# Altium schematic symbol library Capacitor - Tantalum.SchLib: 113 symbols (part 1 of 2)
Pins are listed as number, name and electrical type; pins without a type are passive.

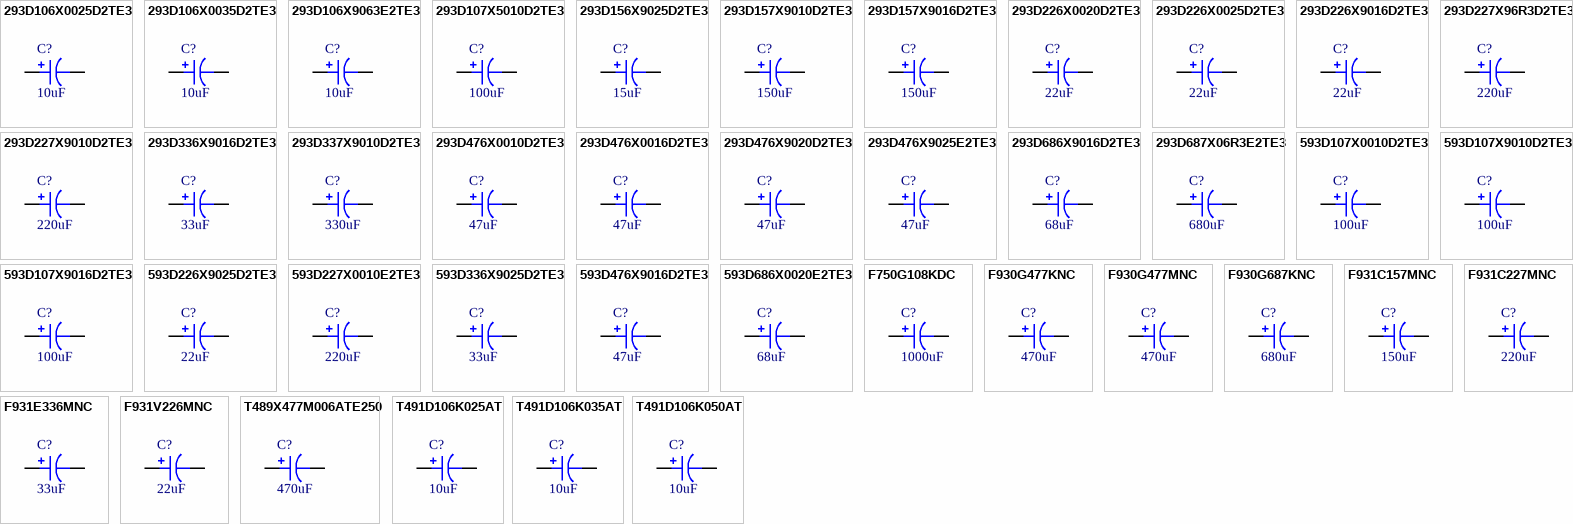
[diagram p0: symbols 293D106X0025D2TE3 to T491D106K050AT]

## 293D106X0025D2TE3
designator C?, comment 10uF
CAP TANT 10UF 25V 20% 2917; Part Number: 293D106X0025D2TE3; Manufacturer: Vishay Sprague; TemperatureRange: -55C ~ 125C; Type: General Purpose; Value: 10uF; PartId: 6863; Supplier 1: Digi-Key; Supplier Part Number 1: 718-1045-2-ND; ComponentLink1Description: Datasheet; ComponentLink1URL: http://www.vishay.com/docs/40002/293d.pdf; ComponentLink2Description: Digi-Key listing; ComponentLink2URL: http://digikey.com/product-detail/en/293D106X0025D2TE3/718-1045-2-ND/1559397; Tolerance: 20%; Voltage: 25V; Price: 0.3107; Device Package: 2917 (7343 Metric)
footprint CAP POL 2917/7343
pins: 1, 2

## 293D106X0035D2TE3
designator C?, comment 10uF
CAP TANT 10UF 35V 20% 2917; Part Number: 293D106X0035D2TE3; Manufacturer: Vishay Sprague; TemperatureRange: -55C ~ 125C; Type: General Purpose; Value: 10uF; PartId: 6869; Supplier 1: Digi-Key; Supplier Part Number 1: 718-1046-2-ND; ComponentLink1Description: Datasheet; ComponentLink1URL: http://www.vishay.com/docs/40002/293d.pdf; ComponentLink2Description: Digi-Key listing; ComponentLink2URL: http://digikey.com/product-detail/en/293D106X0035D2TE3/718-1046-2-ND/1559398; Tolerance: 20%; Voltage: 35V; Price: 0.3563; Device Package: 2917 (7343 Metric)
footprint CAP POL 2917/7343
pins: 1, 2

## 293D106X9063E2TE3
designator C?, comment 10uF
CAP TANT 10UF 63V 10% 2917; Part Number: 293D106X9063E2TE3; Manufacturer: Vishay Sprague; TemperatureRange: -55C ~ 125C; Type: General Purpose; Value: 10uF; PartId: 6972; Supplier 1: Digi-Key; Supplier Part Number 1: 718-1712-2-ND; ComponentLink1Description: Datasheet; ComponentLink1URL: http://www.vishay.com/docs/40002/293d.pdf; ComponentLink2Description: Digi-Key listing; ComponentLink2URL: http://digikey.com/product-detail/en/293D106X9063E2TE3/718-1712-2-ND/2207425; Tolerance: 10%; Voltage: 63V; Price: 5.1509; Device Package: 2917 (7343 Metric)
footprint CAP POL 2917/7343
pins: 1, 2

## 293D107X5010D2TE3
designator C?, comment 100uF
CAP TANT 100UF 10V 5% 2917; Part Number: 293D107X5010D2TE3; Manufacturer: Vishay Sprague; TemperatureRange: -55C ~ 125C; Type: General Purpose; Value: 100uF; PartId: 6924; Supplier 1: Digi-Key; Supplier Part Number 1: 718-1890-2-ND; ComponentLink1Description: Datasheet; ComponentLink1URL: http://www.vishay.com/docs/40002/293d.pdf; ComponentLink2Description: Digi-Key listing; ComponentLink2URL: http://digikey.com/product-detail/en/293D107X5010D2TE3/718-1890-2-ND/1578635; Tolerance: 5%; Voltage: 10V; Price: 0.8461; Device Package: 2917 (7343 Metric)
footprint CAP POL 2917/7343
pins: 1, 2

## 293D156X9025D2TE3
designator C?, comment 15uF
CAP TANT 15UF 25V 10% 2917; Part Number: 293D156X9025D2TE3; Manufacturer: Vishay Sprague; TemperatureRange: -55C ~ 125C; Type: General Purpose; Value: 15uF; PartId: 6874; Supplier 1: Digi-Key; Supplier Part Number 1: 718-1060-2-ND; ComponentLink1Description: Datasheet; ComponentLink1URL: http://www.vishay.com/docs/40002/293d.pdf; ComponentLink2Description: Digi-Key listing; ComponentLink2URL: http://digikey.com/product-detail/en/293D156X9025D2TE3/718-1060-2-ND/1559412; Tolerance: 10%; Voltage: 25V; Price: 0.4162; Device Package: 2917 (7343 Metric)
footprint CAP POL 2917/7343
pins: 1, 2

## 293D157X9010D2TE3
designator C?, comment 150uF
CAP TANT 150UF 10V 10% 2917; Part Number: 293D157X9010D2TE3; Manufacturer: Vishay Sprague; TemperatureRange: -55C ~ 125C; Type: General Purpose; Value: 150uF; PartId: 6913; Supplier 1: Digi-Key; Supplier Part Number 1: 718-1960-2-ND; ComponentLink1Description: Datasheet; ComponentLink1URL: http://www.vishay.com/docs/40002/293d.pdf; ComponentLink2Description: Digi-Key listing; ComponentLink2URL: http://digikey.com/product-detail/en/293D157X9010D2TE3/718-1960-2-ND/1578723; Tolerance: 10%; Voltage: 10V; Price: 0.636; Device Package: 2917 (7343 Metric)
footprint CAP POL 2917/7343
pins: 1, 2

## 293D157X9016D2TE3
designator C?, comment 150uF
CAP TANT 150UF 16V 10% 2917; Part Number: 293D157X9016D2TE3; Manufacturer: Vishay Sprague; TemperatureRange: -55C ~ 125C; Type: General Purpose; Value: 150uF; PartId: 6915; Supplier 1: Digi-Key; Supplier Part Number 1: 718-1746-2-ND; ComponentLink1Description: Datasheet; ComponentLink1URL: http://www.vishay.com/docs/40002/293d.pdf; ComponentLink2Description: Digi-Key listing; ComponentLink2URL: http://digikey.com/product-detail/en/293D157X9016D2TE3/718-1746-2-ND/2259903; Tolerance: 10%; Voltage: 16V; Price: 0.7028; Device Package: 2917 (7343 Metric)
footprint CAP POL 2917/7343
pins: 1, 2

## 293D226X0020D2TE3
designator C?, comment 22uF
CAP TANT 22UF 20V 20% 2917; Part Number: 293D226X0020D2TE3; Manufacturer: Vishay Sprague; TemperatureRange: -55C ~ 125C; Type: General Purpose; Value: 22uF; PartId: 6865; Supplier 1: Digi-Key; Supplier Part Number 1: 718-1063-2-ND; ComponentLink1Description: Datasheet; ComponentLink1URL: http://www.vishay.com/docs/40002/293d.pdf; ComponentLink2Description: Digi-Key listing; ComponentLink2URL: http://digikey.com/product-detail/en/293D226X0020D2TE3/718-1063-2-ND/1559415; Tolerance: 20%; Voltage: 20V; Price: 0.3306; Device Package: 2917 (7343 Metric)
footprint CAP POL 2917/7343
pins: 1, 2

## 293D226X0025D2TE3
designator C?, comment 22uF
CAP TANT 22UF 25V 20% 2917; Part Number: 293D226X0025D2TE3; Manufacturer: Vishay Sprague; TemperatureRange: -55C ~ 125C; Type: General Purpose; Value: 22uF; PartId: 6897; Supplier 1: Digi-Key; Supplier Part Number 1: 718-1064-2-ND; ComponentLink1Description: Datasheet; ComponentLink1URL: http://www.vishay.com/docs/40002/293d.pdf; ComponentLink2Description: Digi-Key listing; ComponentLink2URL: http://digikey.com/product-detail/en/293D226X0025D2TE3/718-1064-2-ND/1559416; Tolerance: 20%; Voltage: 25V; Price: 0.4838; Device Package: 2917 (7343 Metric)
footprint CAP POL 2917/7343
pins: 1, 2

## 293D226X9016D2TE3
designator C?, comment 22uF
CAP TANT 22UF 16V 10% 2917; Part Number: 293D226X9016D2TE3; Manufacturer: Vishay Sprague; TemperatureRange: -55C ~ 125C; Type: General Purpose; Value: 22uF; PartId: 6875; Supplier 1: Digi-Key; Supplier Part Number 1: 718-1067-2-ND; ComponentLink1Description: Datasheet; ComponentLink1URL: http://www.vishay.com/docs/40002/293d.pdf; ComponentLink2Description: Digi-Key listing; ComponentLink2URL: http://digikey.com/product-detail/en/293D226X9016D2TE3/718-1067-2-ND/1559419; Tolerance: 10%; Voltage: 16V; Price: 0.4235; Device Package: 2917 (7343 Metric)
footprint CAP POL 2917/7343
pins: 1, 2

## 293D227X96R3D2TE3
designator C?, comment 220uF
CAP TANT 220UF 6.3V 10% 2917; Part Number: 293D227X96R3D2TE3; Manufacturer: Vishay Sprague; TemperatureRange: -55C ~ 125C; Type: General Purpose; Value: 220uF; PartId: 6904; Supplier 1: Digi-Key; Supplier Part Number 1: 718-1073-2-ND; ComponentLink1Description: Datasheet; ComponentLink1URL: http://www.vishay.com/docs/40002/293d.pdf; ComponentLink2Description: Digi-Key listing; ComponentLink2URL: http://digikey.com/product-detail/en/293D227X96R3D2TE3/718-1073-2-ND/1559425; Tolerance: 10%; Voltage: 6.3V; Price: 0.5248; Device Package: 2917 (7343 Metric)
footprint CAP POL 2917/7343
pins: 1, 2

## 293D227X9010D2TE3
designator C?, comment 220uF
CAP TANT 220UF 10V 10% 2917; Part Number: 293D227X9010D2TE3; Manufacturer: Vishay Sprague; TemperatureRange: -55C ~ 125C; Type: General Purpose; Value: 220uF; PartId: 6908; Supplier 1: Digi-Key; Supplier Part Number 1: 718-1072-2-ND; ComponentLink1Description: Datasheet; ComponentLink1URL: http://www.vishay.com/docs/40002/293d.pdf; ComponentLink2Description: Digi-Key listing; ComponentLink2URL: http://digikey.com/product-detail/en/293D227X9010D2TE3/718-1072-2-ND/1559424; Tolerance: 10%; Voltage: 10V; Price: 0.5808; Device Package: 2917 (7343 Metric)
footprint CAP POL 2917/7343
pins: 1, 2

## 293D336X9016D2TE3
designator C?, comment 33uF
CAP TANT 33UF 16V 10% 2917; Part Number: 293D336X9016D2TE3; Manufacturer: Vishay Sprague; TemperatureRange: -55C ~ 125C; Type: General Purpose; Value: 33uF; PartId: 6868; Supplier 1: Digi-Key; Supplier Part Number 1: 718-1078-2-ND; ComponentLink1Description: Datasheet; ComponentLink1URL: http://www.vishay.com/docs/40002/293d.pdf; ComponentLink2Description: Digi-Key listing; ComponentLink2URL: http://digikey.com/product-detail/en/293D336X9016D2TE3/718-1078-2-ND/1559430; Tolerance: 10%; Voltage: 16V; Price: 0.355; Device Package: 2917 (7343 Metric)
footprint CAP POL 2917/7343
pins: 1, 2

## 293D337X9010D2TE3
designator C?, comment 330uF
CAP TANT 330UF 10V 10% 2917; Part Number: 293D337X9010D2TE3; Manufacturer: Vishay Sprague; TemperatureRange: -55C ~ 125C; Type: General Purpose; Value: 330uF; PartId: 6935; Supplier 1: Digi-Key; Supplier Part Number 1: 718-1747-2-ND; ComponentLink1Description: Datasheet; ComponentLink1URL: http://www.vishay.com/docs/40002/293d.pdf; ComponentLink2Description: Digi-Key listing; ComponentLink2URL: http://digikey.com/product-detail/en/293D337X9010D2TE3/718-1747-2-ND/2259904; Tolerance: 10%; Voltage: 10V; Price: 1.1363; Device Package: 2917 (7343 Metric)
footprint CAP POL 2917/7343
pins: 1, 2

## 293D476X0010D2TE3
designator C?, comment 47uF
CAP TANT 47UF 10V 20% 2917; Part Number: 293D476X0010D2TE3; Manufacturer: Vishay Sprague; TemperatureRange: -55C ~ 125C; Type: General Purpose; Value: 47uF; PartId: 6866; Supplier 1: Digi-Key; Supplier Part Number 1: 718-1936-2-ND; ComponentLink1Description: Datasheet; ComponentLink1URL: http://www.vishay.com/docs/40002/293d.pdf; ComponentLink2Description: Digi-Key listing; ComponentLink2URL: http://digikey.com/product-detail/en/293D476X0010D2TE3/718-1936-2-ND/1578939; Tolerance: 20%; Voltage: 10V; Price: 0.3306; Device Package: 2917 (7343 Metric)
footprint CAP POL 2917/7343
pins: 1, 2

## 293D476X0016D2TE3
designator C?, comment 47uF
CAP TANT 47UF 16V 20% 2917; Part Number: 293D476X0016D2TE3; Manufacturer: Vishay Sprague; TemperatureRange: -55C ~ 125C; Type: General Purpose; Value: 47uF; PartId: 6871; Supplier 1: Digi-Key; Supplier Part Number 1: 718-1086-2-ND; ComponentLink1Description: Datasheet; ComponentLink1URL: http://www.vishay.com/docs/40002/293d.pdf; ComponentLink2Description: Digi-Key listing; ComponentLink2URL: http://digikey.com/product-detail/en/293D476X0016D2TE3/718-1086-2-ND/1559438; Tolerance: 20%; Voltage: 16V; Price: 0.3625; Device Package: 2917 (7343 Metric)
footprint CAP POL 2917/7343
pins: 1, 2

## 293D476X9020D2TE3
designator C?, comment 47uF
CAP TANT 47UF 20V 10% 2917; Part Number: 293D476X9020D2TE3; Manufacturer: Vishay Sprague; TemperatureRange: -55C ~ 125C; Type: General Purpose; Value: 47uF; PartId: 6894; Supplier 1: Digi-Key; Supplier Part Number 1: 718-1091-2-ND; ComponentLink1Description: Datasheet; ComponentLink1URL: http://www.vishay.com/docs/40002/293d.pdf; ComponentLink2Description: Digi-Key listing; ComponentLink2URL: http://digikey.com/product-detail/en/293D476X9020D2TE3/718-1091-2-ND/1559443; Tolerance: 10%; Voltage: 20V; Price: 0.4768; Device Package: 2917 (7343 Metric)
footprint CAP POL 2917/7343
pins: 1, 2

## 293D476X9025E2TE3
designator C?, comment 47uF
CAP TANT 47UF 25V 10% 2917; Part Number: 293D476X9025E2TE3; Manufacturer: Vishay Sprague; TemperatureRange: -55C ~ 125C; Type: General Purpose; Value: 47uF; PartId: 6910; Supplier 1: Digi-Key; Supplier Part Number 1: 718-1752-2-ND; ComponentLink1Description: Datasheet; ComponentLink1URL: http://www.vishay.com/docs/40002/293d.pdf; ComponentLink2Description: Digi-Key listing; ComponentLink2URL: http://digikey.com/product-detail/en/293D476X9025E2TE3/718-1752-2-ND/2259909; Tolerance: 10%; Voltage: 25V; Price: 0.5979; Device Package: 2917 (7343 Metric)
footprint CAP POL 2917/7343
pins: 1, 2

## 293D686X9016D2TE3
designator C?, comment 68uF
CAP TANT 68UF 16V 10% 2917; Part Number: 293D686X9016D2TE3; Manufacturer: Vishay Sprague; TemperatureRange: -55C ~ 125C; Type: General Purpose; Value: 68uF; PartId: 6896; Supplier 1: Digi-Key; Supplier Part Number 1: 718-1096-2-ND; ComponentLink1Description: Datasheet; ComponentLink1URL: http://www.vishay.com/docs/40002/293d.pdf; ComponentLink2Description: Digi-Key listing; ComponentLink2URL: http://digikey.com/product-detail/en/293D686X9016D2TE3/718-1096-2-ND/1559448; Tolerance: 10%; Voltage: 16V; Price: 0.4829; Device Package: 2917 (7343 Metric)
footprint CAP POL 2917/7343
pins: 1, 2

## 293D687X06R3E2TE3
designator C?, comment 680uF
CAP TANT 680UF 6.3V 20% 2917; Part Number: 293D687X06R3E2TE3; Manufacturer: Vishay Sprague; TemperatureRange: -55C ~ 125C; Type: General Purpose; Value: 680uF; PartId: 6957; Supplier 1: Digi-Key; Supplier Part Number 1: 718-1754-2-ND; ComponentLink1Description: Datasheet; ComponentLink1URL: http://www.vishay.com/docs/40002/293d.pdf; ComponentLink2Description: Digi-Key listing; ComponentLink2URL: http://digikey.com/product-detail/en/293D687X06R3E2TE3/718-1754-2-ND/2259911; Tolerance: 20%; Voltage: 6.3V; Price: 1.6139; Device Package: 2917 (7343 Metric)
footprint CAP POL 2917/7343
pins: 1, 2

## 593D107X0010D2TE3
designator C?, comment 100uF
CAP TANT 100UF 10V 20% 2917; Part Number: 593D107X0010D2TE3; Manufacturer: Vishay Sprague; TemperatureRange: -55C ~ 125C; Type: General Purpose; Value: 100uF; PartId: 6890; Supplier 1: Digi-Key; Supplier Part Number 1: 718-1100-2-ND; ComponentLink1Description: Datasheet; ComponentLink1URL: http://www.vishay.com/docs/40005/593d.pdf; ComponentLink2Description: Digi-Key listing; ComponentLink2URL: http://digikey.com/product-detail/en/593D107X0010D2TE3/718-1100-2-ND/1559452; Tolerance: 20%; Voltage: 10V; Price: 0.4656; Device Package: 2917 (7343 Metric)
footprint CAP POL 2917/7343
pins: 1, 2

## 593D107X9010D2TE3
designator C?, comment 100uF
CAP TANT 100UF 10V 10% 2917; Part Number: 593D107X9010D2TE3; Manufacturer: Vishay Sprague; TemperatureRange: -55C ~ 125C; Type: General Purpose; Value: 100uF; PartId: 6889; Supplier 1: Digi-Key; Supplier Part Number 1: 718-1101-2-ND; ComponentLink1Description: Datasheet; ComponentLink1URL: http://www.vishay.com/docs/40005/593d.pdf; ComponentLink2Description: Digi-Key listing; ComponentLink2URL: http://digikey.com/product-detail/en/593D107X9010D2TE3/718-1101-2-ND/1559453; Tolerance: 10%; Voltage: 10V; Price: 0.4656; Device Package: 2917 (7343 Metric)
footprint CAP POL 2917/7343
pins: 1, 2

## 593D107X9016D2TE3
designator C?, comment 100uF
CAP TANT 100UF 16V 10% 2917; Part Number: 593D107X9016D2TE3; Manufacturer: Vishay Sprague; TemperatureRange: -55C ~ 125C; Type: General Purpose; Value: 100uF; PartId: 6911; Supplier 1: Digi-Key; Supplier Part Number 1: 718-1102-2-ND; ComponentLink1Description: Datasheet; ComponentLink1URL: http://www.vishay.com/docs/40005/593d.pdf; ComponentLink2Description: Digi-Key listing; ComponentLink2URL: http://digikey.com/product-detail/en/593D107X9016D2TE3/718-1102-2-ND/1559454; Tolerance: 10%; Voltage: 16V; Price: 0.6145; Device Package: 2917 (7343 Metric)
footprint CAP POL 2917/7343
pins: 1, 2

## 593D226X9025D2TE3
designator C?, comment 22uF
CAP TANT 22UF 25V 10% 2917; Part Number: 593D226X9025D2TE3; Manufacturer: Vishay Sprague; TemperatureRange: -55C ~ 125C; Type: General Purpose; Value: 22uF; PartId: 6893; Supplier 1: Digi-Key; Supplier Part Number 1: 718-1104-2-ND; ComponentLink1Description: Datasheet; ComponentLink1URL: http://www.vishay.com/docs/40005/593d.pdf; ComponentLink2Description: Digi-Key listing; ComponentLink2URL: http://digikey.com/product-detail/en/593D226X9025D2TE3/718-1104-2-ND/1559456; Tolerance: 10%; Voltage: 25V; Price: 0.4715; Device Package: 2917 (7343 Metric)
footprint CAP POL 2917/7343
pins: 1, 2

## 593D227X0010E2TE3
designator C?, comment 220uF
CAP TANT 220UF 10V 20% 2917; Part Number: 593D227X0010E2TE3; Manufacturer: Vishay Sprague; TemperatureRange: -55C ~ 125C; Type: General Purpose; Value: 220uF; PartId: 6916; Supplier 1: Digi-Key; Supplier Part Number 1: 718-1034-2-ND; ComponentLink1Description: Datasheet; ComponentLink1URL: http://www.vishay.com/docs/40005/593d.pdf; ComponentLink2Description: Digi-Key listing; ComponentLink2URL: http://digikey.com/product-detail/en/593D227X0010E2TE3/718-1034-2-ND/1559386; Tolerance: 20%; Voltage: 10V; Price: 0.718; Device Package: 2917 (7343 Metric)
footprint CAP POL 2917/7343
pins: 1, 2

## 593D336X9025D2TE3
designator C?, comment 33uF
CAP TANT 33UF 25V 10% 2917; Part Number: 593D336X9025D2TE3; Manufacturer: Vishay Sprague; TemperatureRange: -55C ~ 125C; Type: General Purpose; Value: 33uF; PartId: 6918; Supplier 1: Digi-Key; Supplier Part Number 1: 718-1939-2-ND; ComponentLink1Description: Datasheet; ComponentLink1URL: http://www.vishay.com/docs/40005/593d.pdf; ComponentLink2Description: Digi-Key listing; ComponentLink2URL: http://digikey.com/product-detail/en/593D336X9025D2TE3/718-1939-2-ND/1579205; Tolerance: 10%; Voltage: 25V; Price: 0.7423; Device Package: 2917 (7343 Metric)
footprint CAP POL 2917/7343
pins: 1, 2

## 593D476X9016D2TE3
designator C?, comment 47uF
CAP TANT 47UF 16V 10% 2917; Part Number: 593D476X9016D2TE3; Manufacturer: Vishay Sprague; TemperatureRange: -55C ~ 125C; Type: General Purpose; Value: 47uF; PartId: 6883; Supplier 1: Digi-Key; Supplier Part Number 1: 718-1108-2-ND; ComponentLink1Description: Datasheet; ComponentLink1URL: http://www.vishay.com/docs/40005/593d.pdf; ComponentLink2Description: Digi-Key listing; ComponentLink2URL: http://digikey.com/product-detail/en/593D476X9016D2TE3/718-1108-2-ND/1559460; Tolerance: 10%; Voltage: 16V; Price: 0.4371; Device Package: 2917 (7343 Metric)
footprint CAP POL 2917/7343
pins: 1, 2

## 593D686X0020E2TE3
designator C?, comment 68uF
CAP TANT 68UF 20V 20% 2917; Part Number: 593D686X0020E2TE3; Manufacturer: Vishay Sprague; TemperatureRange: -55C ~ 125C; Type: General Purpose; Value: 68uF; PartId: 6929; Supplier 1: Digi-Key; Supplier Part Number 1: 718-1973-2-ND; ComponentLink1Description: Datasheet; ComponentLink1URL: http://www.vishay.com/docs/40005/593d.pdf; ComponentLink2Description: Digi-Key listing; ComponentLink2URL: http://digikey.com/product-detail/en/593D686X0020E2TE3/718-1973-2-ND/1579281; Tolerance: 20%; Voltage: 20V; Price: 0.9285; Device Package: 2917 (7343 Metric)
footprint CAP POL 2917/7343
pins: 1, 2

## F750G108KDC
designator C?, comment 1000uF
CAP TANT 1000UF 4V 10% 2917; Part Number: F750G108KDC; Manufacturer: Nichicon; TemperatureRange: -55C ~ 125C; Type: General Purpose; Value: 1000uF; PartId: 6967; Supplier 1: Digi-Key; Supplier Part Number 1: 493-4063-2-ND; ComponentLink1Description: Datasheet; ComponentLink1URL: http://nichicon-us.com/english/products/pdfs/e-f72_75.pdf; ComponentLink2Description: Digi-Key listing; ComponentLink2URL: http://digikey.com/product-detail/en/F750G108KDC/493-4063-2-ND/2529526; Tolerance: 10%; Voltage: 4V; Price: 2.8543; Device Package: 2917 (7343 Metric)
footprint CAP POL 2917/7343
pins: 1, 2

## F930G477KNC
designator C?, comment 470uF
CAP TANT 470UF 4V 10% 2917; Part Number: F930G477KNC; Manufacturer: Nichicon; TemperatureRange: -55C ~ 125C; Type: General Purpose; Value: 470uF; PartId: 6934; Supplier 1: Digi-Key; Supplier Part Number 1: 493-4105-2-ND; ComponentLink1Description: Datasheet; ComponentLink1URL: http://nichicon-us.com/english/products/pdfs/e-f93.pdf; ComponentLink2Description: Digi-Key listing; ComponentLink2URL: http://digikey.com/product-detail/en/F930G477KNC/493-4105-2-ND/2529569; Tolerance: 10%; Voltage: 4V; Price: 1.0051; Device Package: 2917 (7343 Metric)
footprint CAP POL 2917/7343
pins: 1, 2

## F930G477MNC
designator C?, comment 470uF
CAP TANT 470UF 4V 20% 2917; Part Number: F930G477MNC; Manufacturer: Nichicon; TemperatureRange: -55C ~ 125C; Type: General Purpose; Value: 470uF; PartId: 6930; Supplier 1: Digi-Key; Supplier Part Number 1: 493-5735-2-ND; ComponentLink1Description: Datasheet; ComponentLink1URL: http://nichicon-us.com/english/products/pdfs/e-f93.pdf; ComponentLink2Description: Digi-Key listing; ComponentLink2URL: http://digikey.com/product-detail/en/F930G477MNC/493-5735-2-ND/2522889; Tolerance: 20%; Voltage: 4V; Price: 0.9566; Device Package: 2917 (7343 Metric)
footprint CAP POL 2917/7343
pins: 1, 2

## F930G687KNC
designator C?, comment 680uF
CAP TANT 680UF 4V 10% 2917; Part Number: F930G687KNC; Manufacturer: Nichicon; TemperatureRange: -55C ~ 125C; Type: General Purpose; Value: 680uF; PartId: 6941; Supplier 1: Digi-Key; Supplier Part Number 1: 493-4107-2-ND; ComponentLink1Description: Datasheet; ComponentLink1URL: http://nichicon-us.com/english/products/pdfs/e-f93.pdf; ComponentLink2Description: Digi-Key listing; ComponentLink2URL: http://digikey.com/product-detail/en/F930G687KNC/493-4107-2-ND/2529571; Tolerance: 10%; Voltage: 4V; Price: 1.2682; Device Package: 2917 (7343 Metric)
footprint CAP POL 2917/7343
pins: 1, 2

## F931C157MNC
designator C?, comment 150uF
CAP TANT 150UF 16V 20% 2917; Part Number: F931C157MNC; Manufacturer: Nichicon; TemperatureRange: -55C ~ 125C; Type: General Purpose; Value: 150uF; PartId: 6933; Supplier 1: Digi-Key; Supplier Part Number 1: 493-5767-2-ND; ComponentLink1Description: Datasheet; ComponentLink1URL: http://nichicon-us.com/english/products/pdfs/e-f93.pdf; ComponentLink2Description: Digi-Key listing; ComponentLink2URL: http://digikey.com/product-detail/en/F931C157MNC/493-5767-2-ND/3317393; Tolerance: 20%; Voltage: 16V; Price: 0.9858; Device Package: 2917 (7343 Metric)
footprint CAP POL 2917/7343
pins: 1, 2

## F931C227MNC
designator C?, comment 220uF
CAP TANT 220UF 16V 20% 2917; Part Number: F931C227MNC; Manufacturer: AVX Corporation; TemperatureRange: -55C ~ 125C; Type: General Purpose; Value: 220uF; PartId: 6942; Supplier 1: Digi-Key; Supplier Part Number 1: 478-8258-2-ND; ComponentLink1Description: Datasheet; ComponentLink1URL: http://datasheets.avx.com/f93.pdf; ComponentLink2Description: Digi-Key listing; ComponentLink2URL: http://digikey.com/product-detail/en/F931C227MNC/478-8258-2-ND/4005195; Tolerance: 20%; Voltage: 16V; Price: 1.273; Device Package: 2917 (7343 Metric)
footprint CAP POL 2917/7343
pins: 1, 2

## F931E336MNC
designator C?, comment 33uF
CAP TANT 33UF 25V 20% 2917; Part Number: F931E336MNC; Manufacturer: AVX Corporation; TemperatureRange: -55C ~ 125C; Type: General Purpose; Value: 33uF; PartId: 6921; Supplier 1: Digi-Key; Supplier Part Number 1: 478-8320-2-ND; ComponentLink1Description: Datasheet; ComponentLink1URL: http://datasheets.avx.com/f93.pdf; ComponentLink2Description: Digi-Key listing; ComponentLink2URL: http://digikey.com/product-detail/en/F931E336MNC/478-8320-2-ND/4005242; Tolerance: 20%; Voltage: 25V; Price: 0.7915; Device Package: 2917 (7343 Metric)
footprint CAP POL 2917/7343
pins: 1, 2

## F931V226MNC
designator C?, comment 22uF
CAP TANT 22UF 35V 20% 2917; Part Number: F931V226MNC; Manufacturer: AVX Corporation; TemperatureRange: -55C ~ 125C; Type: General Purpose; Value: 22uF; PartId: 6914; Supplier 1: Digi-Key; Supplier Part Number 1: 478-8342-2-ND; ComponentLink1Description: Datasheet; ComponentLink1URL: http://datasheets.avx.com/f93.pdf; ComponentLink2Description: Digi-Key listing; ComponentLink2URL: http://digikey.com/product-detail/en/F931V226MNC/478-8342-2-ND/4005285; Tolerance: 20%; Voltage: 35V; Price: 0.6703; Device Package: 2917 (7343 Metric)
footprint CAP POL 2917/7343
pins: 1, 2

## T489X477M006ATE250
designator C?, comment 470uF
CAP TAN 470UF 20% 6V 7343-43; Part Number: T489X477M006ATE250; Manufacturer: Kemet; TemperatureRange: -55C ~ 125C; Voltage: 6.3V; Type: General Purpose; Value: 470uF; PartId: 6962; Supplier 1: Digi-Key; Supplier Part Number 1: 399-11973-2-ND; ComponentLink1Description: Datasheet; ComponentLink1URL: http://capacitoredge.kemet.com/capedge2/DataSheet?pn=T489X477M006ATE250; ComponentLink2Description: Digi-Key listing; ComponentLink2URL: http://digikey.com/product-detail/en/T489X477M006ATE250/399-11973-2-ND/5267597; Tolerance: 20%; Price: 2.1837; Device Package: 2917 (7343 Metric)
footprint CAP POL 2917/7343
pins: 1, 2

## T491D106K025AT
designator C?, comment 10uF
CAP TANT 10UF 25V 10% 2917; Part Number: T491D106K025AT; Manufacturer: Kemet; TemperatureRange: -55C ~ 125C; Type: General Purpose; Value: 10uF; PartId: 6891; Supplier 1: Digi-Key; Supplier Part Number 1: 399-3765-2-ND; ComponentLink1Description: Datasheet; ComponentLink1URL: http://www.kemet.com/Lists/ProductCatalog/Attachments/254/KEM_T2005_T491.pdf; ComponentLink2Description: Digi-Key listing; ComponentLink2URL: http://digikey.com/product-detail/en/T491D106K025AT/399-3765-2-ND/818625; Tolerance: 10%; Voltage: 25V; Price: 0.4671; Device Package: 2917 (7343 Metric)
footprint CAP POL 2917/7343
pins: 1, 2

## T491D106K035AT
designator C?, comment 10uF
CAP TANT 10UF 35V 10% 2917; Part Number: T491D106K035AT; Manufacturer: Kemet; TemperatureRange: -55C ~ 125C; Type: General Purpose; Value: 10uF; PartId: 6873; Supplier 1: Digi-Key; Supplier Part Number 1: 399-3766-2-ND; ComponentLink1Description: Datasheet; ComponentLink1URL: http://www.kemet.com/Lists/ProductCatalog/Attachments/254/KEM_T2005_T491.pdf; ComponentLink2Description: Digi-Key listing; ComponentLink2URL: http://digikey.com/product-detail/en/T491D106K035AT/399-3766-2-ND/818626; Tolerance: 10%; Voltage: 35V; Price: 0.4047; Device Package: 2917 (7343 Metric)
footprint CAP POL 2917/7343
pins: 1, 2

## T491D106K050AT
designator C?, comment 10uF
CAP TANT 10UF 50V 10% 2917; Part Number: T491D106K050AT; Manufacturer: Kemet; TemperatureRange: -55C ~ 125C; Type: General Purpose; Value: 10uF; PartId: 6940; Supplier 1: Digi-Key; Supplier Part Number 1: 399-8361-2-ND; ComponentLink1Description: Datasheet; ComponentLink1URL: http://www.kemet.com/Lists/ProductCatalog/Attachments/254/KEM_T2005_T491.pdf; ComponentLink2Description: Digi-Key listing; ComponentLink2URL: http://digikey.com/product-detail/en/T491D106K050AT/399-8361-2-ND/2336310; Tolerance: 10%; Voltage: 50V; Price: 1.2617; Device Package: 2917 (7343 Metric)
footprint CAP POL 2917/7343
pins: 1, 2

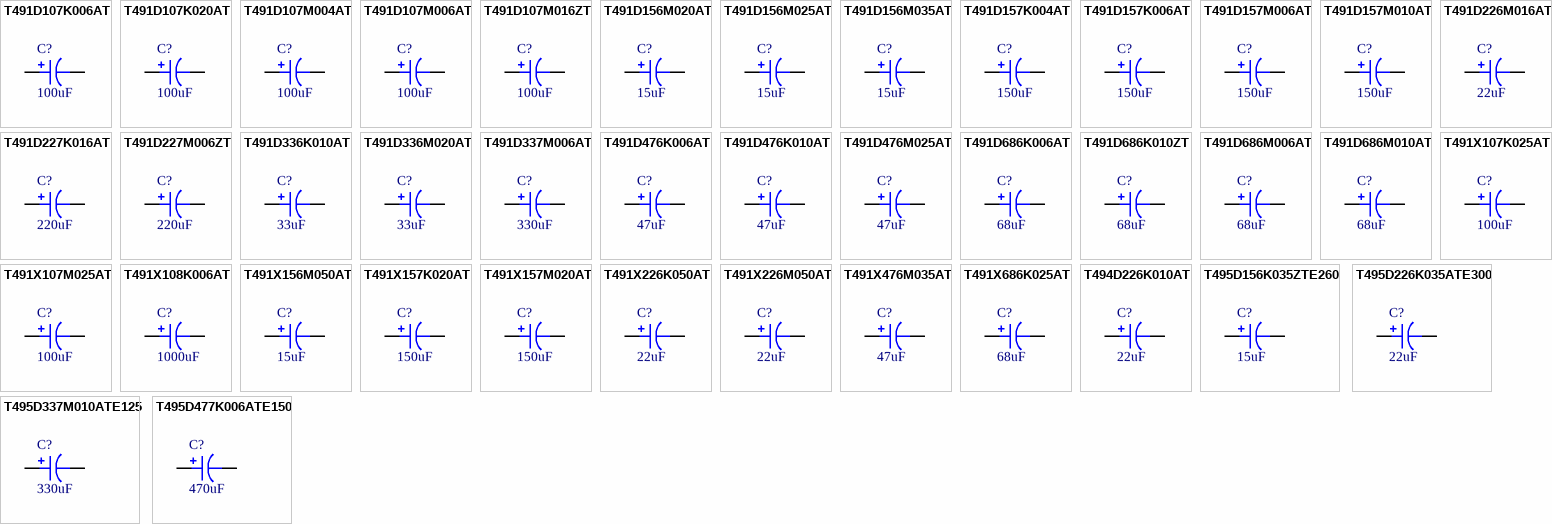
[diagram p1: symbols T491D107K006AT to T495D477K006ATE150]

## T491D107K006AT
designator C?, comment 100uF
CAP TANT 100UF 6.3V 10% 2917; Part Number: T491D107K006AT; Manufacturer: Kemet; TemperatureRange: -55C ~ 125C; Type: General Purpose; Value: 100uF; PartId: 6878; Supplier 1: Digi-Key; Supplier Part Number 1: 399-8364-2-ND; ComponentLink1Description: Datasheet; ComponentLink1URL: http://www.kemet.com/Lists/ProductCatalog/Attachments/254/KEM_T2005_T491.pdf; ComponentLink2Description: Digi-Key listing; ComponentLink2URL: http://digikey.com/product-detail/en/T491D107K006AT/399-8364-2-ND/2336314; Tolerance: 10%; Voltage: 6.3V; Price: 0.4358; Device Package: 2917 (7343 Metric)
footprint CAP POL 2917/7343
pins: 1, 2

## T491D107K020AT
designator C?, comment 100uF
CAP TANT 100UF 20V 10% 7343 SMD; Part Number: T491D107K020AT; Manufacturer: Kemet; TemperatureRange: -55C ~ 125C; Type: General Purpose; Value: 100uF; PartId: 6963; Supplier 1: Digi-Key; Supplier Part Number 1: 399-11281-2-ND; ComponentLink1Description: Datasheet; ComponentLink1URL: http://www.kemet.com/Lists/ProductCatalog/Attachments/254/KEM_T2005_T491.pdf; ComponentLink2Description: Digi-Key listing; ComponentLink2URL: http://digikey.com/product-detail/en/T491D107K020AT/399-11281-2-ND/4707684; Tolerance: 10%; Voltage: 20V; Price: 2.2518; Device Package: 2917 (7343 Metric)
footprint CAP POL 2917/7343
pins: 1, 2

## T491D107M004AT
designator C?, comment 100uF
CAP TANT 100UF 4V 20% 2917; Part Number: T491D107M004AT; Manufacturer: Kemet; TemperatureRange: -55C ~ 125C; Type: General Purpose; Value: 100uF; PartId: 6880; Supplier 1: Digi-Key; Supplier Part Number 1: 399-3771-2-ND; ComponentLink1Description: Datasheet; ComponentLink1URL: http://www.kemet.com/Lists/ProductCatalog/Attachments/254/KEM_T2005_T491.pdf; ComponentLink2Description: Digi-Key listing; ComponentLink2URL: http://digikey.com/product-detail/en/T491D107M004AT/399-3771-2-ND/818631; Tolerance: 20%; Voltage: 4V; Price: 0.4358; Device Package: 2917 (7343 Metric)
footprint CAP POL 2917/7343
pins: 1, 2

## T491D107M006AT
designator C?, comment 100uF
CAP TANT 100UF 6.3V 20% 2917; Part Number: T491D107M006AT; Manufacturer: Kemet; TemperatureRange: -55C ~ 125C; Type: General Purpose; Value: 100uF; PartId: 6887; Supplier 1: Digi-Key; Supplier Part Number 1: 399-8367-2-ND; ComponentLink1Description: Datasheet; ComponentLink1URL: http://www.kemet.com/Lists/ProductCatalog/Attachments/254/KEM_T2005_T491.pdf; ComponentLink2Description: Digi-Key listing; ComponentLink2URL: http://digikey.com/product-detail/en/T491D107M006AT/399-8367-2-ND/2336318; Tolerance: 20%; Voltage: 6.3V; Price: 0.4445; Device Package: 2917 (7343 Metric)
footprint CAP POL 2917/7343
pins: 1, 2

## T491D107M016ZT
designator C?, comment 100uF
CAP TANT 100UF 16V 20% 2917; Part Number: T491D107M016ZT; Manufacturer: Kemet; TemperatureRange: -55C ~ 125C; Type: General Purpose; Value: 100uF; PartId: 6902; Supplier 1: Digi-Key; Supplier Part Number 1: 495-2256-2-ND; ComponentLink1Description: Datasheet; ComponentLink1URL: http://www.kemet.com/Lists/ProductCatalog/Attachments/254/KEM_T2005_T491.pdf; ComponentLink2Description: Digi-Key listing; ComponentLink2URL: http://digikey.com/product-detail/en/T491D107M016ZT/495-2256-2-ND/770307; Tolerance: 20%; Voltage: 16V; Price: 0.5117; Device Package: 2917 (7343 Metric)
footprint CAP POL 2917/7343
pins: 1, 2

## T491D156M020AT
designator C?, comment 15uF
CAP TANT 15UF 20V 20% 2917; Part Number: T491D156M020AT; Manufacturer: Kemet; TemperatureRange: -55C ~ 125C; Type: General Purpose; Value: 15uF; PartId: 6881; Supplier 1: Digi-Key; Supplier Part Number 1: 399-8369-2-ND; ComponentLink1Description: Datasheet; ComponentLink1URL: http://www.kemet.com/Lists/ProductCatalog/Attachments/254/KEM_T2005_T491.pdf; ComponentLink2Description: Digi-Key listing; ComponentLink2URL: http://digikey.com/product-detail/en/T491D156M020AT/399-8369-2-ND/2336321; Tolerance: 20%; Voltage: 20V; Price: 0.4358; Device Package: 2917 (7343 Metric)
footprint CAP POL 2917/7343
pins: 1, 2

## T491D156M025AT
designator C?, comment 15uF
CAP TANT 15UF 25V 20% 2917; Part Number: T491D156M025AT; Manufacturer: Kemet; TemperatureRange: -55C ~ 125C; Type: General Purpose; Value: 15uF; PartId: 6877; Supplier 1: Digi-Key; Supplier Part Number 1: 399-3776-2-ND; ComponentLink1Description: Datasheet; ComponentLink1URL: http://www.kemet.com/Lists/ProductCatalog/Attachments/254/KEM_T2005_T491.pdf; ComponentLink2Description: Digi-Key listing; ComponentLink2URL: http://digikey.com/product-detail/en/T491D156M025AT/399-3776-2-ND/818636; Tolerance: 20%; Voltage: 25V; Price: 0.4281; Device Package: 2917 (7343 Metric)
footprint CAP POL 2917/7343
pins: 1, 2

## T491D156M035AT
designator C?, comment 15uF
CAP TANT 15UF 35V 20% 2917; Part Number: T491D156M035AT; Manufacturer: Kemet; TemperatureRange: -55C ~ 125C; Type: General Purpose; Value: 15uF; PartId: 6907; Supplier 1: Digi-Key; Supplier Part Number 1: 399-9742-2-ND; ComponentLink1Description: Datasheet; ComponentLink1URL: http://www.kemet.com/Lists/ProductCatalog/Attachments/254/KEM_T2005_T491.pdf; ComponentLink2Description: Digi-Key listing; ComponentLink2URL: http://digikey.com/product-detail/en/T491D156M035AT/399-9742-2-ND/3724817; Tolerance: 20%; Voltage: 35V; Price: 0.5546; Device Package: 2917 (7343 Metric)
footprint CAP POL 2917/7343
pins: 1, 2

## T491D157K004AT
designator C?, comment 150uF
CAP TANT 150UF 4V 10% 2917; Part Number: T491D157K004AT; Manufacturer: Kemet; TemperatureRange: -55C ~ 125C; Type: General Purpose; Value: 150uF; PartId: 6903; Supplier 1: Digi-Key; Supplier Part Number 1: 399-8370-2-ND; ComponentLink1Description: Datasheet; ComponentLink1URL: http://www.kemet.com/Lists/ProductCatalog/Attachments/254/KEM_T2005_T491.pdf; ComponentLink2Description: Digi-Key listing; ComponentLink2URL: http://digikey.com/product-detail/en/T491D157K004AT/399-8370-2-ND/2336322; Tolerance: 10%; Voltage: 4V; Price: 0.5148; Device Package: 2917 (7343 Metric)
footprint CAP POL 2917/7343
pins: 1, 2

## T491D157K006AT
designator C?, comment 150uF
CAP TANT 150UF 6.3V 10% 2917; Part Number: T491D157K006AT; Manufacturer: Kemet; TemperatureRange: -55C ~ 125C; Type: General Purpose; Value: 150uF; PartId: 6899; Supplier 1: Digi-Key; Supplier Part Number 1: 399-8371-2-ND; ComponentLink1Description: Datasheet; ComponentLink1URL: http://www.kemet.com/Lists/ProductCatalog/Attachments/254/KEM_T2005_T491.pdf; ComponentLink2Description: Digi-Key listing; ComponentLink2URL: http://digikey.com/product-detail/en/T491D157K006AT/399-8371-2-ND/2336323; Tolerance: 10%; Voltage: 6.3V; Price: 0.4977; Device Package: 2917 (7343 Metric)
footprint CAP POL 2917/7343
pins: 1, 2

## T491D157M006AT
designator C?, comment 150uF
CAP TANT 150UF 6.3V 20% 2917; Part Number: T491D157M006AT; Manufacturer: Kemet; TemperatureRange: -55C ~ 125C; Type: General Purpose; Value: 150uF; PartId: 6900; Supplier 1: Digi-Key; Supplier Part Number 1: 399-10186-2-ND; ComponentLink1Description: Datasheet; ComponentLink1URL: http://www.kemet.com/Lists/ProductCatalog/Attachments/254/KEM_T2005_T491.pdf; ComponentLink2Description: Digi-Key listing; ComponentLink2URL: http://digikey.com/product-detail/en/T491D157M006AT/399-10186-2-ND/3759665; Tolerance: 20%; Voltage: 6.3V; Price: 0.4977; Device Package: 2917 (7343 Metric)
footprint CAP POL 2917/7343
pins: 1, 2

## T491D157M010AT
designator C?, comment 150uF
CAP TANT 150UF 10V 20% 2917; Part Number: T491D157M010AT; Manufacturer: Kemet; TemperatureRange: -55C ~ 125C; Type: General Purpose; Value: 150uF; PartId: 6922; Supplier 1: Digi-Key; Supplier Part Number 1: 399-3778-2-ND; ComponentLink1Description: Datasheet; ComponentLink1URL: http://www.kemet.com/Lists/ProductCatalog/Attachments/254/KEM_T2005_T491.pdf; ComponentLink2Description: Digi-Key listing; ComponentLink2URL: http://digikey.com/product-detail/en/T491D157M010AT/399-3778-2-ND/818638; Tolerance: 20%; Voltage: 10V; Price: 0.7941; Device Package: 2917 (7343 Metric)
footprint CAP POL 2917/7343
pins: 1, 2

## T491D226M016AT
designator C?, comment 22uF
CAP TANT 22UF 16V 20% 2917; Part Number: T491D226M016AT; Manufacturer: Kemet; TemperatureRange: -55C ~ 125C; Type: General Purpose; Value: 22uF; PartId: 6888; Supplier 1: Digi-Key; Supplier Part Number 1: 399-8376-2-ND; ComponentLink1Description: Datasheet; ComponentLink1URL: http://www.kemet.com/Lists/ProductCatalog/Attachments/254/KEM_T2005_T491.pdf; ComponentLink2Description: Digi-Key listing; ComponentLink2URL: http://digikey.com/product-detail/en/T491D226M016AT/399-8376-2-ND/2001926; Tolerance: 20%; Voltage: 16V; Price: 0.4623; Device Package: 2917 (7343 Metric)
footprint CAP POL 2917/7343
pins: 1, 2

## T491D227K016AT
designator C?, comment 220uF
CAP TANT 220UF 16V 10% 2917; Part Number: T491D227K016AT; Manufacturer: Kemet; TemperatureRange: -55C ~ 125C; Type: General Purpose; Value: 220uF; PartId: 6917; Supplier 1: Digi-Key; Supplier Part Number 1: 399-10429-2-ND; ComponentLink1Description: Datasheet; ComponentLink1URL: http://www.kemet.com/Lists/ProductCatalog/Attachments/254/KEM_T2005_T491.pdf; ComponentLink2Description: Digi-Key listing; ComponentLink2URL: http://digikey.com/product-detail/en/T491D227K016AT/399-10429-2-ND/3907827; Tolerance: 10%; Voltage: 16V; Price: 0.7322; Device Package: 2917 (7343 Metric)
footprint CAP POL 2917/7343
pins: 1, 2

## T491D227M006ZT
designator C?, comment 220uF
CAP TANT 220UF 6.3V 20% 2917; Part Number: T491D227M006ZT; Manufacturer: Kemet; TemperatureRange: -55C ~ 125C; Type: General Purpose; Value: 220uF; PartId: 6905; Supplier 1: Digi-Key; Supplier Part Number 1: 495-2194-2-ND; ComponentLink1Description: Datasheet; ComponentLink1URL: http://www.kemet.com/Lists/ProductCatalog/Attachments/254/KEM_T2005_T491.pdf; ComponentLink2Description: Digi-Key listing; ComponentLink2URL: http://digikey.com/product-detail/en/T491D227M006ZT/495-2194-2-ND/770245; Tolerance: 20%; Voltage: 6.3V; Price: 0.5306; Device Package: 2917 (7343 Metric)
footprint CAP POL 2917/7343
pins: 1, 2

## T491D336K010AT
designator C?, comment 33uF
CAP TANT 33UF 10V 10% 2917; Part Number: T491D336K010AT; Manufacturer: Kemet; TemperatureRange: -55C ~ 125C; Type: General Purpose; Value: 33uF; PartId: 6892; Supplier 1: Digi-Key; Supplier Part Number 1: 399-3786-2-ND; ComponentLink1Description: Datasheet; ComponentLink1URL: http://www.kemet.com/Lists/ProductCatalog/Attachments/254/KEM_T2005_T491.pdf; ComponentLink2Description: Digi-Key listing; ComponentLink2URL: http://digikey.com/product-detail/en/T491D336K010AT/399-3786-2-ND/818646; Tolerance: 10%; Voltage: 10V; Price: 0.4701; Device Package: 2917 (7343 Metric)
footprint CAP POL 2917/7343
pins: 1, 2

## T491D336M020AT
designator C?, comment 33uF
CAP TANT 33UF 20V 20% 2917; Part Number: T491D336M020AT; Manufacturer: Kemet; TemperatureRange: -55C ~ 125C; Type: General Purpose; Value: 33uF; PartId: 6895; Supplier 1: Digi-Key; Supplier Part Number 1: 399-8383-2-ND; ComponentLink1Description: Datasheet; ComponentLink1URL: http://www.kemet.com/Lists/ProductCatalog/Attachments/254/KEM_T2005_T491.pdf; ComponentLink2Description: Digi-Key listing; ComponentLink2URL: http://digikey.com/product-detail/en/T491D336M020AT/399-8383-2-ND/2336338; Tolerance: 20%; Voltage: 20V; Price: 0.4771; Device Package: 2917 (7343 Metric)
footprint CAP POL 2917/7343
pins: 1, 2

## T491D337M006AT
designator C?, comment 330uF
CAP TANT 330UF 6.3V 20% 2917; Part Number: T491D337M006AT; Manufacturer: Kemet; TemperatureRange: -55C ~ 125C; Type: General Purpose; Value: 330uF; PartId: 6925; Supplier 1: Digi-Key; Supplier Part Number 1: 399-10192-2-ND; ComponentLink1Description: Datasheet; ComponentLink1URL: http://www.kemet.com/Lists/ProductCatalog/Attachments/254/KEM_T2005_T491.pdf; ComponentLink2Description: Digi-Key listing; ComponentLink2URL: http://digikey.com/product-detail/en/T491D337M006AT/399-10192-2-ND/3759671; Tolerance: 20%; Voltage: 6.3V; Price: 0.8493; Device Package: 2917 (7343 Metric)
footprint CAP POL 2917/7343
pins: 1, 2

## T491D476K006AT
designator C?, comment 47uF
CAP TANT 47UF 6.3V 10% 2917; Part Number: T491D476K006AT; Manufacturer: Kemet; TemperatureRange: -55C ~ 125C; Type: General Purpose; Value: 47uF; PartId: 6886; Supplier 1: Digi-Key; Supplier Part Number 1: 399-8389-2-ND; ComponentLink1Description: Datasheet; ComponentLink1URL: http://www.kemet.com/Lists/ProductCatalog/Attachments/254/KEM_T2005_T491.pdf; ComponentLink2Description: Digi-Key listing; ComponentLink2URL: http://digikey.com/product-detail/en/T491D476K006AT/399-8389-2-ND/2336346; Tolerance: 10%; Voltage: 6.3V; Price: 0.4445; Device Package: 2917 (7343 Metric)
footprint CAP POL 2917/7343
pins: 1, 2

## T491D476K010AT
designator C?, comment 47uF
CAP TANT 47UF 10V 10% 2917; Part Number: T491D476K010AT; Manufacturer: Kemet; TemperatureRange: -55C ~ 125C; Type: General Purpose; Value: 47uF; PartId: 6884; Supplier 1: Digi-Key; Supplier Part Number 1: 399-3793-2-ND; ComponentLink1Description: Datasheet; ComponentLink1URL: http://www.kemet.com/Lists/ProductCatalog/Attachments/254/KEM_T2005_T491.pdf; ComponentLink2Description: Digi-Key listing; ComponentLink2URL: http://digikey.com/product-detail/en/T491D476K010AT/399-3793-2-ND/818653; Tolerance: 10%; Voltage: 10V; Price: 0.4445; Device Package: 2917 (7343 Metric)
footprint CAP POL 2917/7343
pins: 1, 2

## T491D476M025AT
designator C?, comment 47uF
CAP TANT 47UF 25V 20% 2917; Part Number: T491D476M025AT; Manufacturer: Kemet; TemperatureRange: -55C ~ 125C; Type: General Purpose; Value: 47uF; PartId: 6923; Supplier 1: Digi-Key; Supplier Part Number 1: 399-3797-2-ND; ComponentLink1Description: Datasheet; ComponentLink1URL: http://www.kemet.com/Lists/ProductCatalog/Attachments/254/KEM_T2005_T491.pdf; ComponentLink2Description: Digi-Key listing; ComponentLink2URL: http://digikey.com/product-detail/en/T491D476M025AT/399-3797-2-ND/818657; Tolerance: 20%; Voltage: 25V; Price: 0.8178; Device Package: 2917 (7343 Metric)
footprint CAP POL 2917/7343
pins: 1, 2

## T491D686K006AT
designator C?, comment 68uF
CAP TANT 68UF 6.3V 10% 2917; Part Number: T491D686K006AT; Manufacturer: Kemet; TemperatureRange: -55C ~ 125C; Type: General Purpose; Value: 68uF; PartId: 6885; Supplier 1: Digi-Key; Supplier Part Number 1: 399-3802-2-ND; ComponentLink1Description: Datasheet; ComponentLink1URL: http://www.kemet.com/Lists/ProductCatalog/Attachments/254/KEM_T2005_T491.pdf; ComponentLink2Description: Digi-Key listing; ComponentLink2URL: http://digikey.com/product-detail/en/T491D686K006AT/399-3802-2-ND/818662; Tolerance: 10%; Voltage: 6.3V; Price: 0.4445; Device Package: 2917 (7343 Metric)
footprint CAP POL 2917/7343
pins: 1, 2

## T491D686K010ZT
designator C?, comment 68uF
CAP TANT 68UF 10V 10% 2917; Part Number: T491D686K010ZT; Manufacturer: Kemet; TemperatureRange: -55C ~ 125C; Type: General Purpose; Value: 68uF; PartId: 6864; Supplier 1: Digi-Key; Supplier Part Number 1: 495-2219-2-ND; ComponentLink1Description: Datasheet; ComponentLink1URL: http://www.kemet.com/Lists/ProductCatalog/Attachments/254/KEM_T2005_T491.pdf; ComponentLink2Description: Digi-Key listing; ComponentLink2URL: http://digikey.com/product-detail/en/T491D686K010ZT/495-2219-2-ND/770270; Tolerance: 10%; Voltage: 10V; Price: 0.3222; Device Package: 2917 (7343 Metric)
footprint CAP POL 2917/7343
pins: 1, 2

## T491D686M006AT
designator C?, comment 68uF
CAP TANT 68UF 6.3V 20% 2917; Part Number: T491D686M006AT; Manufacturer: Kemet; TemperatureRange: -55C ~ 125C; Type: General Purpose; Value: 68uF; PartId: 6879; Supplier 1: Digi-Key; Supplier Part Number 1: 399-8398-2-ND; ComponentLink1Description: Datasheet; ComponentLink1URL: http://www.kemet.com/Lists/ProductCatalog/Attachments/254/KEM_T2005_T491.pdf; ComponentLink2Description: Digi-Key listing; ComponentLink2URL: http://digikey.com/product-detail/en/T491D686M006AT/399-8398-2-ND/2345205; Tolerance: 20%; Voltage: 6.3V; Price: 0.4358; Device Package: 2917 (7343 Metric)
footprint CAP POL 2917/7343
pins: 1, 2

## T491D686M010AT
designator C?, comment 68uF
CAP TANT 68UF 10V 20% 2917; Part Number: T491D686M010AT; Manufacturer: Kemet; TemperatureRange: -55C ~ 125C; Type: General Purpose; Value: 68uF; PartId: 6882; Supplier 1: Digi-Key; Supplier Part Number 1: 399-10197-2-ND; ComponentLink1Description: Datasheet; ComponentLink1URL: http://www.kemet.com/Lists/ProductCatalog/Attachments/254/KEM_T2005_T491.pdf; ComponentLink2Description: Digi-Key listing; ComponentLink2URL: http://digikey.com/product-detail/en/T491D686M010AT/399-10197-2-ND/3759676; Tolerance: 20%; Voltage: 10V; Price: 0.4367; Device Package: 2917 (7343 Metric)
footprint CAP POL 2917/7343
pins: 1, 2

## T491X107K025AT
designator C?, comment 100uF
CAP TANT 100UF 25V 10% 2917; Part Number: T491X107K025AT; Manufacturer: Kemet; TemperatureRange: -55C ~ 125C; Type: General Purpose; Value: 100uF; PartId: 6955; Supplier 1: Digi-Key; Supplier Part Number 1: 399-8410-2-ND; ComponentLink1Description: Datasheet; ComponentLink1URL: http://www.kemet.com/Lists/ProductCatalog/Attachments/254/KEM_T2005_T491.pdf; ComponentLink2Description: Digi-Key listing; ComponentLink2URL: http://digikey.com/product-detail/en/T491X107K025AT/399-8410-2-ND/2336377; Tolerance: 10%; Voltage: 25V; Price: 1.5895; Device Package: 2917 (7343 Metric)
footprint CAP POL 2917/7343
pins: 1, 2

## T491X107M025AT
designator C?, comment 100uF
CAP TANT 100UF 25V 20% 2917; Part Number: T491X107M025AT; Manufacturer: Kemet; TemperatureRange: -55C ~ 125C; Type: General Purpose; Value: 100uF; PartId: 6956; Supplier 1: Digi-Key; Supplier Part Number 1: 399-9749-2-ND; ComponentLink1Description: Datasheet; ComponentLink1URL: http://www.kemet.com/Lists/ProductCatalog/Attachments/254/KEM_T2005_T491.pdf; ComponentLink2Description: Digi-Key listing; ComponentLink2URL: http://digikey.com/product-detail/en/T491X107M025AT/399-9749-2-ND/3724808; Tolerance: 20%; Voltage: 25V; Price: 1.5895; Device Package: 2917 (7343 Metric)
footprint CAP POL 2917/7343
pins: 1, 2

## T491X108K006AT
designator C?, comment 1000uF
CAP TANT 1000UF 6.3V 10% 2917; Part Number: T491X108K006AT; Manufacturer: Kemet; TemperatureRange: -55C ~ 125C; Type: General Purpose; Value: 1000uF; PartId: 6965; Supplier 1: Digi-Key; Supplier Part Number 1: 399-5123-2-ND; ComponentLink1Description: Datasheet; ComponentLink1URL: http://www.kemet.com/Lists/ProductCatalog/Attachments/254/KEM_T2005_T491.pdf; ComponentLink2Description: Digi-Key listing; ComponentLink2URL: http://digikey.com/product-detail/en/T491X108K006AT/399-5123-2-ND/1681738; Tolerance: 10%; Voltage: 6.3V; Price: 2.6306; Device Package: 2917 (7343 Metric)
footprint CAP POL 2917/7343
pins: 1, 2

## T491X156M050AT
designator C?, comment 15uF
CAP TANT 15UF 50V 20% 2917; Part Number: T491X156M050AT; Manufacturer: Kemet; TemperatureRange: -55C ~ 125C; Type: General Purpose; Value: 15uF; PartId: 6964; Supplier 1: Digi-Key; Supplier Part Number 1: 399-10208-2-ND; ComponentLink1Description: Datasheet; ComponentLink1URL: http://www.kemet.com/Lists/ProductCatalog/Attachments/254/KEM_T2005_T491.pdf; ComponentLink2Description: Digi-Key listing; ComponentLink2URL: http://digikey.com/product-detail/en/T491X156M050AT/399-10208-2-ND/3759687; Tolerance: 20%; Voltage: 50V; Price: 2.5997; Device Package: 2917 (7343 Metric)
footprint CAP POL 2917/7343
pins: 1, 2

## T491X157K020AT
designator C?, comment 150uF
CAP TANT 150UF 20V 10% 2917; Part Number: T491X157K020AT; Manufacturer: Kemet; TemperatureRange: -55C ~ 125C; Type: General Purpose; Value: 150uF; PartId: 6953; Supplier 1: Digi-Key; Supplier Part Number 1: 399-4794-2-ND; ComponentLink1Description: Datasheet; ComponentLink1URL: http://www.kemet.com/Lists/ProductCatalog/Attachments/254/KEM_T2005_T491.pdf; ComponentLink2Description: Digi-Key listing; ComponentLink2URL: http://digikey.com/product-detail/en/T491X157K020AT/399-4794-2-ND/1085489; Tolerance: 10%; Voltage: 20V; Price: 1.5133; Device Package: 2917 (7343 Metric)
footprint CAP POL 2917/7343
pins: 1, 2

## T491X157M020AT
designator C?, comment 150uF
CAP TANT 150UF 20V 20% 2917; Part Number: T491X157M020AT; Manufacturer: Kemet; TemperatureRange: -55C ~ 125C; Type: General Purpose; Value: 150uF; PartId: 6954; Supplier 1: Digi-Key; Supplier Part Number 1: 399-9750-2-ND; ComponentLink1Description: Datasheet; ComponentLink1URL: http://www.kemet.com/Lists/ProductCatalog/Attachments/254/KEM_T2005_T491.pdf; ComponentLink2Description: Digi-Key listing; ComponentLink2URL: http://digikey.com/product-detail/en/T491X157M020AT/399-9750-2-ND/3724713; Tolerance: 20%; Voltage: 20V; Price: 1.5133; Device Package: 2917 (7343 Metric)
footprint CAP POL 2917/7343
pins: 1, 2

## T491X226K050AT
designator C?, comment 22uF
CAP TANT 22UF 50V 10% 2917; Part Number: T491X226K050AT; Manufacturer: Kemet; TemperatureRange: -55C ~ 125C; Type: General Purpose; Value: 22uF; PartId: 6970; Supplier 1: Digi-Key; Supplier Part Number 1: 399-9751-2-ND; ComponentLink1Description: Datasheet; ComponentLink1URL: http://www.kemet.com/Lists/ProductCatalog/Attachments/254/KEM_T2005_T491.pdf; ComponentLink2Description: Digi-Key listing; ComponentLink2URL: http://digikey.com/product-detail/en/T491X226K050AT/399-9751-2-ND/3724809; Tolerance: 10%; Voltage: 50V; Price: 3.6048; Device Package: 2917 (7343 Metric)
footprint CAP POL 2917/7343
pins: 1, 2

## T491X226M050AT
designator C?, comment 22uF
CAP TANT 22UF 50V 20% 2917; Part Number: T491X226M050AT; Manufacturer: Kemet; TemperatureRange: -55C ~ 125C; Type: General Purpose; Value: 22uF; PartId: 6969; Supplier 1: Digi-Key; Supplier Part Number 1: 399-9752-2-ND; ComponentLink1Description: Datasheet; ComponentLink1URL: http://www.kemet.com/Lists/ProductCatalog/Attachments/254/KEM_T2005_T491.pdf; ComponentLink2Description: Digi-Key listing; ComponentLink2URL: http://digikey.com/product-detail/en/T491X226M050AT/399-9752-2-ND/3724812; Tolerance: 20%; Voltage: 50V; Price: 3.3133; Device Package: 2917 (7343 Metric)
footprint CAP POL 2917/7343
pins: 1, 2

## T491X476M035AT
designator C?, comment 47uF
CAP TANT 47UF 35V 20% 2917; Part Number: T491X476M035AT; Manufacturer: Kemet; TemperatureRange: -55C ~ 125C; Type: General Purpose; Value: 47uF; PartId: 6949; Supplier 1: Digi-Key; Supplier Part Number 1: 399-8421-2-ND; ComponentLink1Description: Datasheet; ComponentLink1URL: http://www.kemet.com/Lists/ProductCatalog/Attachments/254/KEM_T2005_T491.pdf; ComponentLink2Description: Digi-Key listing; ComponentLink2URL: http://digikey.com/product-detail/en/T491X476M035AT/399-8421-2-ND/2336393; Tolerance: 20%; Voltage: 35V; Price: 1.3769; Device Package: 2917 (7343 Metric)
footprint CAP POL 2917/7343
pins: 1, 2

## T491X686K025AT
designator C?, comment 68uF
CAP TANT 68UF 25V 10% 2917; Part Number: T491X686K025AT; Manufacturer: Kemet; TemperatureRange: -55C ~ 125C; Type: General Purpose; Value: 68uF; PartId: 6947; Supplier 1: Digi-Key; Supplier Part Number 1: 399-8424-2-ND; ComponentLink1Description: Datasheet; ComponentLink1URL: http://www.kemet.com/Lists/ProductCatalog/Attachments/254/KEM_T2005_T491.pdf; ComponentLink2Description: Digi-Key listing; ComponentLink2URL: http://digikey.com/product-detail/en/T491X686K025AT/399-8424-2-ND/2336396; Tolerance: 10%; Voltage: 25V; Price: 1.3427; Device Package: 2917 (7343 Metric)
footprint CAP POL 2917/7343
pins: 1, 2

## T494D226K010AT
designator C?, comment 22uF
CAP TANT 22UF 10V 10% 2917; Part Number: T494D226K010AT; Manufacturer: Kemet; TemperatureRange: -55C ~ 125C; Type: General Purpose; Value: 22uF; PartId: 6936; Supplier 1: Digi-Key; Supplier Part Number 1: 399-5601-2-ND; ComponentLink1Description: Datasheet; ComponentLink1URL: http://www.kemet.com/Lists/ProductCatalog/Attachments/256/KEM_T2008_T494.pdf; ComponentLink2Description: Digi-Key listing; ComponentLink2URL: http://digikey.com/product-detail/en/T494D226K010AT/399-5601-2-ND/2039627; Tolerance: 10%; Voltage: 10V; Price: 1.1916; Device Package: 2917 (7343 Metric)
footprint CAP POL 2917/7343
pins: 1, 2